# Altium schematic symbol library Signetik-passives.SchLib: 477 symbols (part 2 of 3)
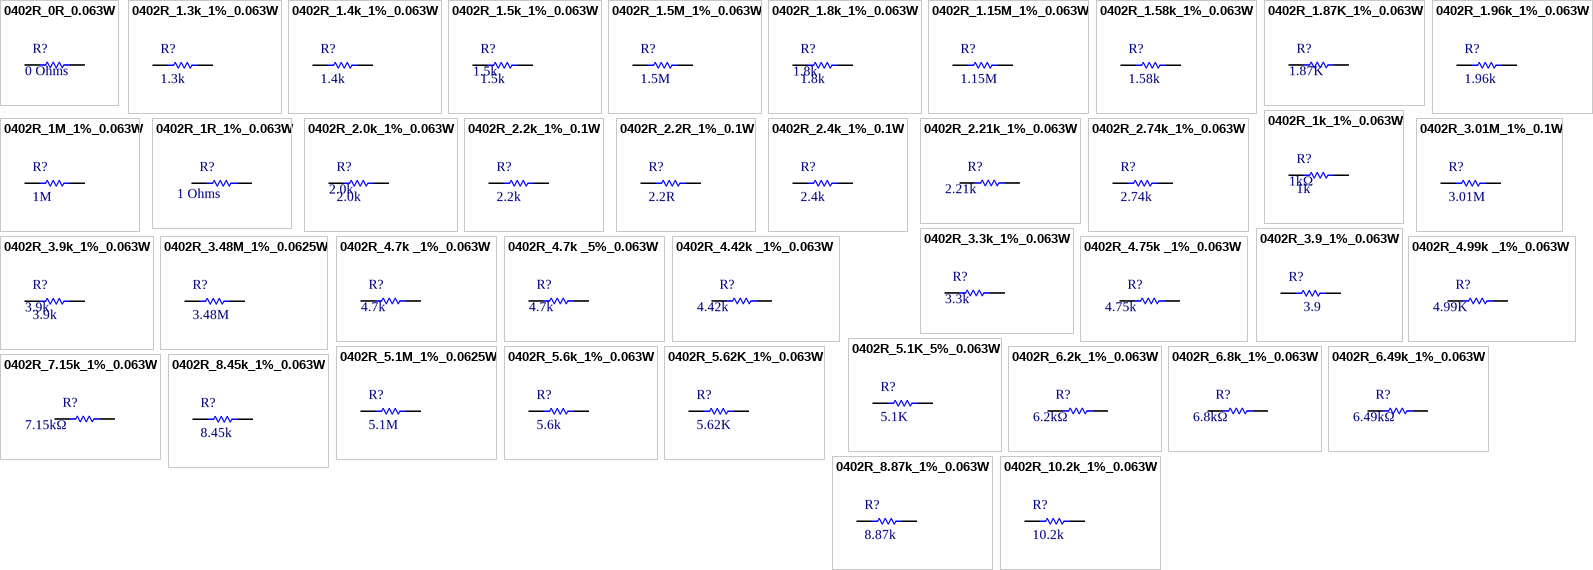
[diagram p12: symbols 0402R_0R_0.063W to 0402R_10.2k_1%_0.063W]

## 0402R_1R_1%_0.063W
designator R?, comment value 1 Ohms  (hidden comment: 1R)
RES 1 OHM 1% 1/16W 0402; MPN: RC0402FR-071RL; Mfg: Yageo; TemperatureRange: -55°C ~ 155°C; Tolerance: ±1%
footprint 0402_RES (0402 (1005) SMD Resistor)
pins: 1, 2

## 0402R_2.0k_1%_0.063W
designator R?, comment 2.0k
RES SMD 2.0K OHM 1% 1/16W 0402; MPN: RC0402FR-072KL; Mfg: Yageo; Unit Cost, Qty 1: $0.10; Unit Cost, Qty 500: $0.00298; Value: 2.0k
footprint 0402_RES (0402 (1005) SMD Resistor)
pins: 1, 2

## 0402R_2.2k_1%_0.1W
designator R?, comment 2.2k
RES SMD 2.2K OHM 1% 1/10W 0402; MPN: ERJ-2RKF2201X; Mfg: Panasonic Electronic Components; Unit Cost, Qty 1: $0.10; Unit Cost, Qty 500: $0.0189; Value: 2.2k
footprint 0402_RES (0402 (1005) SMD Resistor)
pins: 1, 2

## 0402R_2.2R_1%_0.1W
designator R?, comment 2.2R
RES SMD 2.2 OHM 1% 1/16W 0402; MPN: RC0402FR-072R2L; Mfg: Yageo; Unit Cost, Qty 1: $0.10; Unit Cost, Qty 500: $0.0189; Value: 2.2R
footprint 0402_RES (0402 (1005) SMD Resistor)
pins: 1, 2

## 0402R_2.4k_1%_0.1W
designator R?, comment 2.4k
RES SMD 2.4K OHM 1% 1/10W 0402; MPN: RT0402FRE072K4L; Mfg: Yageo; Unit Cost, Qty 1: $0.10; Unit Cost, Qty 500: $0.0189; Value: 2.4k
footprint 0402_RES (0402 (1005) SMD Resistor)
pins: 1, 2

## 0402R_2.21k_1%_0.063W
designator R?, comment 2.21k
RES SMD 2.21K OHM 1% 1/16W 0402; MPN: RC0402FR-072K21L; Mfg: Yageo; Unit Cost, Qty 1: $0.10; Unit Cost, Qty 500: $0.00298; Value: 2.21k
footprint 0402_RES (0402 (1005) SMD Resistor)
pins: 1, 2

## 0402R_2.74k_1%_0.063W
designator R?, comment 2.74k
RES SMD 2.74K OHM 1% 1/16W 0402; MPN: RC0402FR-072K74L; Mfg: Yageo; Unit Cost, Qty 1: $0.10; Unit Cost, Qty 500: $0.00298; Value: 2.74k
footprint 0402_RES (0402 (1005) SMD Resistor)
pins: 1, 2

## 0402R_3.01M_1%_0.1W
designator R?, comment 3.01M
RES SMD 3.01M OHM 1% 1/10W 0402; MPN: RK73H1ETTP3014F; Mfg: KOA Speer; Unit Cost, Qty 1: $0.10; Unit Cost, Qty 500: $0.004; Value: 3.01M
footprint 0402_RES (0402 (1005) SMD Resistor)
pins: 1, 2

## 0402R_3.3k_1%_0.063W
designator R?, comment 3.3k
RES SMD 3.3K OHM 1% 1/16W 0402; MPN: RC0402FR-073K3L; Mfg: Yageo; Unit Cost, Qty 1: $0.10; Unit Cost, Qty 500: $0.00298; Value: 3.3k
footprint 0402_RES (0402 (1005) SMD Resistor)
pins: 1, 2

## 0402R_3.9_1%_0.063W
designator R?, comment 3.9
Resistor 3.9 Ohm ±1% 0.063W SMD 0402; MPN: CRCW04023R90FKED; Mfg: Vishay Dale; Unit Cost, Qty 1: $0.10; Unit Cost, Qty 500: $0.0143; Value: 3.9
footprint 0402_RES (0402 (1005) SMD Resistor)
pins: 1, 2

## 0402R_3.9k_1%_0.063W
designator R?, comment 3.9k
RES SMD 3.9K OHM 1% 1/16W 0402; MPN: RC0402FR-073K9L; Mfg: Yageo; Unit Cost, Qty 1: $0.10; Unit Cost, Qty 500: $0.00298; Value: 3.9k
footprint 0402_RES (0402 (1005) SMD Resistor)
pins: 1, 2

## 0402R_3.48M_1%_0.0625W
designator R?, comment 3.48M
RES SMD 3.48M OHM 1% 1/16W 0402; MPN: RMCF0402FT3M48; Mfg: Stackpole Electronics Inc; Unit Cost, Qty 1: $0.10; Unit Cost, Qty 500: $0.0075; Value: 3.48M
footprint 0402_RES (0402 (1005) SMD Resistor)
pins: 1, 2

## 0402R_4.7k _1%_0.063W
designator R?, comment 4.7k
Resistor 4.7k Ohm ±1% 0.063W 0402; MPN: RC0402FR-074K7L; Mfg: Yageo; Unit Cost, Qty 1: $0.10; Unit Cost, Qty 500: $0.0054; Value: 4.7k
footprint 0402_RES (0402 (1005) SMD Resistor)
pins: 1, 2

## 0402R_4.7k _5%_0.063W
designator R?, comment 4.7k
RES 4.7K OHM 5% 1/16W 0402; MPN: RC0402JR-074K7L; Mfg: Yageo; TemperatureRange: -55°C ~ 155°C; Tolerance: ±5%; Value: 4.7k
footprint 0402_RES (0402 (1005) SMD Resistor)
pins: 1, 2

## 0402R_4.42k _1%_0.063W
designator R?, comment 4.42k
RES SMD 4.42K OHM 1% 1/16W 0402; MPN: RC0402FR-074K42L; Mfg: Yageo; Unit Cost, Qty 1: $0.10; Unit Cost, Qty 500: $0.00296; Value: 4.42k
footprint 0402_RES (0402 (1005) SMD Resistor)
pins: 1, 2

## 0402R_4.75k _1%_0.063W
designator R?, comment 4.75k
Resistor 4.75k Ohm ±1% 0.063W 0402; MPN: RC0402FR-074K75L; Mfg: Yageo; Unit Cost, Qty 1: $0.10; Unit Cost, Qty 500: $0.0054; Value: 4.75k
footprint 0402_RES (0402 (1005) SMD Resistor)
pins: 1, 2

## 0402R_4.99k _1%_0.063W
designator R?, comment 4.99K
RES SMD 4.99K OHM 1% 1/16W 0402; MPN: RC0402FR-074K99L; Mfg: Yageo; Unit Cost, Qty 1: $0.10; Unit Cost, Qty 500: $0.0054; Value: 4.99K
footprint 0402_RES (0402 (1005) SMD Resistor)
pins: 1, 2

## 0402R_5.1K_5%_0.063W
designator R?, comment 5.1K
RES SMD 5.1K OHM 5% 1/16W 0402; MPN: RC0402JR-075K1L; Mfg: Yageo; Unit Cost, Qty 1: $0.10; Unit Cost, Qty 500: $0.0075; Value: 5.1K
footprint 0402_RES (0402 (1005) SMD Resistor)
pins: 1, 2

## 0402R_5.1M_1%_0.0625W
designator R?, comment 5.1M
RES SMD 5.1M OHM 1% 1/16W 0402; MPN: RMCF0402FT5M10; Mfg: Stackpole Electronics Inc; Unit Cost, Qty 1: $0.10; Unit Cost, Qty 500: $0.0075; Value: 5.1M
footprint 0402_RES (0402 (1005) SMD Resistor)
pins: 1, 2

## 0402R_5.6k_1%_0.063W
designator R?, comment 5.6k
RES SMD 5.6K OHM 1% 1/16W 0402; MPN: AC0402FR-075K6L; Mfg: Yageo; TemperatureRange: -55°C ~ 155°C; Tolerance: ±1%; Value: 5.6k
footprint 0402_RES (0402 (1005) SMD Resistor)
pins: 1, 2

## 0402R_5.62K_1%_0.063W
designator R?, comment 5.62K
5.62 kOhms ±1% 0.063W, 1/16W Chip Resistor 0402 (1005 Metric) Anti-Sulfur, Automotive AEC-Q200 Thick Film; MPN: AF0402FR-075K62L; Mfg: Yageo; Unit Cost, Qty 1: $0.10; Unit Cost, Qty 500: $0.0075; Value: 5.62K
footprint 0402_RES (0402 (1005) SMD Resistor)
pins: 1, 2

## 0402R_6.2k_1%_0.063W
designator R?, comment 6.2kΩ
Resistor 6.2k Ohm ±1% 0.063W 0402; MPN: RC0402FR-076K2L; Mfg: Yageo; Unit Cost, Qty 1: $0.10; Unit Cost, Qty 500: $0.0054; Value: 6.2kΩ
footprint 0402_RES (0402 (1005) SMD Resistor)
pins: 1, 2

## 0402R_6.8k_1%_0.063W
designator R?, comment 6.8kΩ
Resistor 6.8k Ohm ±1% 0.063W 0402; MPN: RC0402FR-076K8L; Mfg: Yageo; Unit Cost, Qty 1: $0.10; Unit Cost, Qty 500: $0.0054; Value: 6.8kΩ
footprint 0402_RES (0402 (1005) SMD Resistor)
pins: 1, 2

## 0402R_6.49k_1%_0.063W
designator R?, comment 6.49kΩ
Resistor 6.49k Ohm ±1% 0.063W 0402; MPN: RC0402FR-076K49L; Mfg: Yageo; Unit Cost, Qty 1: $0.10; Unit Cost, Qty 500: $0.0056; Value: 6.49kΩ
footprint 0402_RES (0402 (1005) SMD Resistor)
pins: 1, 2

## 0402R_7.15k_1%_0.063W
designator R?, comment 7.15kΩ
Resistor 7.15k Ohm ±1% 0.063W 0402; MPN: RC0402FR-077K15L; Mfg: Yageo; Unit Cost, Qty 1: $0.10; Unit Cost, Qty 500: $0.0056; Value: 7.15kΩ
footprint 0402_RES (0402 (1005) SMD Resistor)
pins: 1, 2

## 0402R_8.45k_1%_0.063W
designator R?, comment 8.45k
Resistor 8.45k Ohm ±1% 0.063W 0402; MPN: RC0402FR-078K45L; Mfg: Yageo; Unit Cost, Qty 1: $0.10; Unit Cost, Qty 500: $0.0064; Value: 8.45k
footprint 0402_RES (0402 (1005) SMD Resistor)
pins: 1, 2

## 0402R_8.87k_1%_0.063W
designator R?, comment 8.87k
Resistor 8.87k Ohm ±1% 0.063W 0402; MPN: RC0402FR-078K87L; Mfg: Yageo; Unit Cost, Qty 1: $0.10; Unit Cost, Qty 500: $0.0064; Value: 8.87k
footprint 0402_RES (0402 (1005) SMD Resistor)
pins: 1, 2

## 0402R_10.2k_1%_0.063W
designator R?, comment 10.2k
RES SMD 10.2K OHM 1% 1/16W 0402; MPN: RC0402FR-0710K2L; Mfg: Yageo; Unit Cost, Qty 1: $0.10; Unit Cost, Qty 500: $0.0064; Value: 10.2k
footprint 0402_RES (0402 (1005) SMD Resistor)
pins: 1, 2

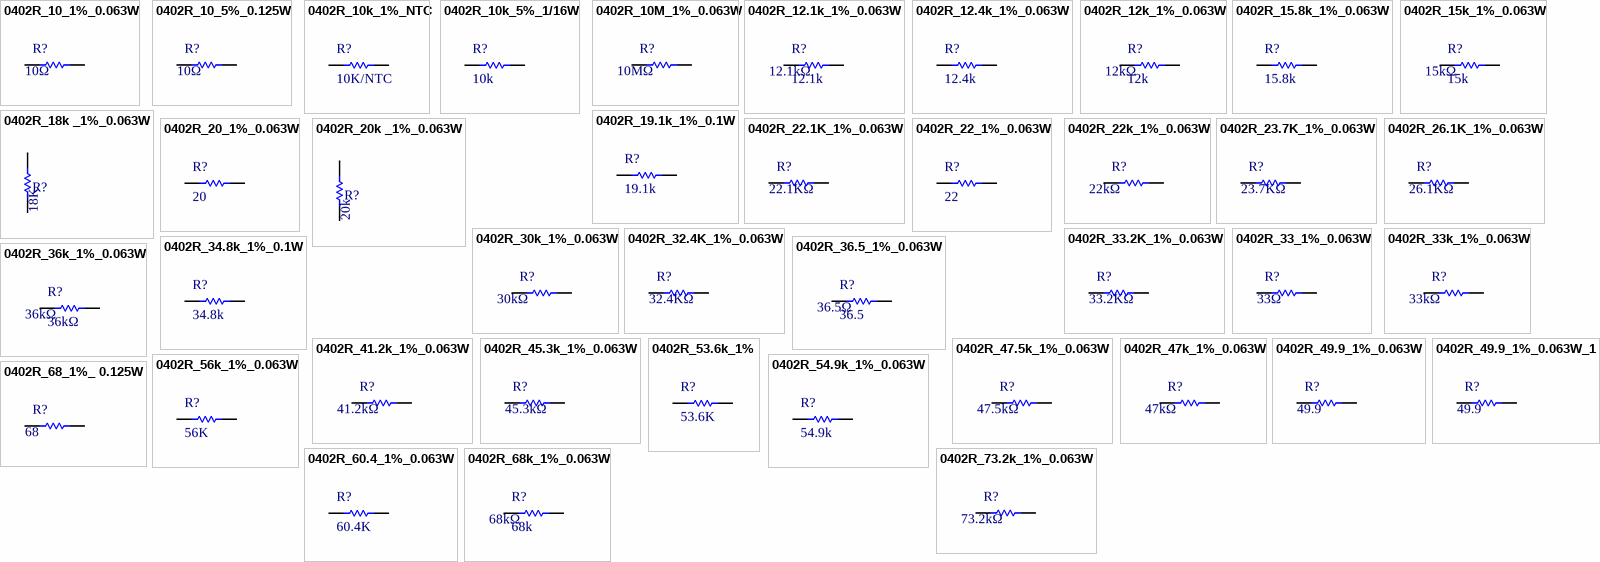
[diagram p5: symbols 0402R_10_1%_0.063W to 0402R_73.2k_1%_0.063W]

## 0402R_10_1%_0.063W
designator R?, comment value 10Ω  (hidden comment: 10)
Resistor 10 Ohm 0.063W 0402; MPN: RC0402FR-0710RL; Mfg: Yageo; Unit Cost, Qty 1: $0.10; Unit Cost, Qty 500: $0.00234
footprint 0402_RES (0402 (1005) SMD Resistor)
pins: 1, 2

## 0402R_10_5%_0.125W
designator R?, comment value 10Ω  (hidden comment: 10)
RES SMD 10 OHM 5% 1/8W 0402; MPN: CRCW040210R0JNEDHP; Mfg: Vishay Dale; Unit Cost, Qty 1: $0.10; Unit Cost, Qty 500: $0.00234
footprint 0402_RES (0402 (1005) SMD Resistor)
pins: 1, 2

## 0402R_10k_1%_NTC
designator R?, comment 10K/NTC
NTC Thermistor 10k 0402 (1005 Metric); MPN: NCU15XH103F6SRC; Mfg: Murata Electronics; Unit Cost, Qty 1: $0.10; Unit Cost, Qty 500: $0.0146; Value: 10K/NTC
footprint 0402_RES (0402 (1005) SMD Resistor)
pins: 1, 2

## 0402R_10k_5%_1/16W
designator R?, comment 10k
RES SMD 10K OHM 5% 1/16W 0402; MPN: RC0402JR-0710KL; Mfg: Yageo; Unit Cost, Qty 1: $0.10; Unit Cost, Qty 500: $0.0146; Value: 10k
footprint 0402_RES (0402 (1005) SMD Resistor)
pins: 1, 2

## 0402R_10M_1%_0.063W
designator R?, comment value 10MΩ  (hidden comment: 10M)
RES SMD 10M OHM 1% 1/16W 0402; MPN: RC0402FR-0710ML; Mfg: Yageo; Unit Cost, Qty 1: $0.10; Unit Cost, Qty 500: $0.00296
footprint 0402_RES (0402 (1005) SMD Resistor)
pins: 1, 2

## 0402R_12.1k_1%_0.063W
designator R?, comment 12.1k  value 12.1kΩ
Resistor 12.1k Ohm ±1% 0.063W 0402; MPN: RC0402FR-0712K1L; Mfg: Yageo; Unit Cost, Qty 1: $0.10; Unit Cost, Qty 500: $0.0054
footprint 0402_RES (0402 (1005) SMD Resistor)
pins: 1, 2

## 0402R_12.4k_1%_0.063W
designator R?, comment 12.4k
Resistor 12.4k Ohm ±1% 0.063W 0402; MPN: RC0402FR-0712K4L; Mfg: Yageo; Unit Cost, Qty 1: $0.10; Unit Cost, Qty 500: $0.0064; Value: 12.4k
footprint 0402_RES (0402 (1005) SMD Resistor)
pins: 1, 2

## 0402R_12k_1%_0.063W
designator R?, comment 12k  value 12kΩ
RES SMD 12K OHM 1% 1/16W 0402; MPN: RC0402FR-0712KL; Mfg: Yageo; Unit Cost, Qty 1: $0.10; Unit Cost, Qty 500: $0.00298
footprint 0402_RES (0402 (1005) SMD Resistor)
pins: 1, 2

## 0402R_15.8k_1%_0.063W
designator R?, comment 15.8k
Resistor 15.8k Ohm ±1% 0.063W 0402; MPN: RC0402FR-0715K8L; Mfg: Yageo; Unit Cost, Qty 1: $0.10; Unit Cost, Qty 500: $0.0056; Value: 15.8k
footprint 0402_RES (0402 (1005) SMD Resistor)
pins: 1, 2

## 0402R_15k_1%_0.063W
designator R?, comment 15k  value 15kΩ
Resistor 15k Ohm ±1% 0.063W 0402; MPN: RC0402FR-0715KL; Mfg: Yageo; Unit Cost, Qty 1: $0.10; Unit Cost, Qty 500: $0.0056
footprint 0402_RES (0402 (1005) SMD Resistor)
pins: 1, 2

## 0402R_18k _1%_0.063W
designator R?, comment 18K
18 kOhms ±1% 0.063W, 1/16W Chip Resistor 0402 (1005 Metric) Moisture Resistant Thick Film; MPN: RC0402FR-0718KL; Mfg: Yageo; Unit Cost, Qty 1: $0.10; Unit Cost, Qty 500: $0.0054; Value: 18K
footprint 0402_RES (0402 (1005) SMD Resistor)
pins: 1, 2

## 0402R_19.1k_1%_0.1W
designator R?, comment 19.1k
Resistor 19.1k Ohm ±1% 0.1W 0402; MPN: ERJ-2RKF1912X; Mfg: Panasonic; Unit Cost, Qty 1: $0.10; Unit Cost, Qty 500: $0.0066; Value: 19.1k
footprint 0402_RES (0402 (1005) SMD Resistor)
pins: 1, 2

## 0402R_20_1%_0.063W
designator R?, comment 20
RES SMD 20 OHM 1% 1/16W 0402; MPN: RT0402FRE0720RL; Mfg: Yageo; Unit Cost, Qty 1: $0.10; Unit Cost, Qty 500: $0.0086; Value: 20
footprint 0402_RES (0402 (1005) SMD Resistor)
pins: 1, 2

## 0402R_20k _1%_0.063W
designator R?, comment 20k
RES SMD 20K OHM 1% 1/16W 0402; MPN: RC0402FR-0720KL; Mfg: Yageo; Unit Cost, Qty 1: $0.10; Unit Cost, Qty 500: $0.0054; Value: 20k
footprint 0402_RES (0402 (1005) SMD Resistor)
pins: 1, 2

## 0402R_22.1K_1%_0.063W
designator R?, comment 22.1KΩ
RES SMD 22.1K OHM 1% 1/16W 0402; MPN: RC0402FR-0722K1L; Mfg: Yageo; Unit Cost, Qty 1: $0.10; Unit Cost, Qty 500: $0.00262; Value: 22.1KΩ
footprint 0402_RES (0402 (1005) SMD Resistor)
pins: 1, 2

## 0402R_22_1%_0.063W
designator R?, comment 22
RES 22 OHM 1% 1/16W 0402; MPN: RC0402FR-0722RL; Mfg: Yageo; TemperatureRange: -55°C ~ 155°C; Tolerance: ±1%; Value: 22
footprint 0402_RES (0402 (1005) SMD Resistor)
pins: 1, 2

## 0402R_22k_1%_0.063W
designator R?, comment 22kΩ
RES SMD 22K OHM 1% 1/16W 0402; MPN: RC0402FR-0722KL; Mfg: Yageo; Unit Cost, Qty 1: $0.10; Unit Cost, Qty 500: $0.00298; Value: 22kΩ
footprint 0402_RES (0402 (1005) SMD Resistor)
pins: 1, 2

## 0402R_23.7K_1%_0.063W
designator R?, comment 23.7KΩ
RES SMD 23.7K OHM 1% 1/16W 0402; MPN: RC0402FR-0723K7L; Mfg: Yageo; Unit Cost, Qty 1: $0.10; Unit Cost, Qty 500: $0.00262; Value: 23.7KΩ
footprint 0402_RES (0402 (1005) SMD Resistor)
pins: 1, 2

## 0402R_26.1K_1%_0.063W
designator R?, comment 26.1KΩ
RES SMD 26.1K OHM 1% 1/16W 0402; MPN: RC0402FR-0726K1L; Mfg: Yageo; Unit Cost, Qty 1: $0.10; Unit Cost, Qty 500: $0.00262; Value: 26.1KΩ
footprint 0402_RES (0402 (1005) SMD Resistor)
pins: 1, 2

## 0402R_30k_1%_0.063W
designator R?, comment 30kΩ
RES SMD 30K OHM 1% 1/16W 0402; MPN: RC0402FR-0730KL; Mfg: Yageo; Unit Cost, Qty 1: $0.10; Unit Cost, Qty 500: $0.00298; Value: 30kΩ
footprint 0402_RES (0402 (1005) SMD Resistor)
pins: 1, 2

## 0402R_32.4K_1%_0.063W
designator R?, comment 32.4KΩ
RES SMD 32.4KOHM 0.1% 1/16W 0402; MPN: RT0402BRD0732K4L; Mfg: Yageo; Unit Cost, Qty 1: $0.10; Unit Cost, Qty 500: $0.00262; Value: 32.4KΩ
footprint 0402_RES (0402 (1005) SMD Resistor)
pins: 1, 2

## 0402R_33.2K_1%_0.063W
designator R?, comment 33.2KΩ
RES SMD 33 OHM 5% 1/16W 0402; MPN: CRCW040233K2FKEDC; Mfg: Vishay Dale; Unit Cost, Qty 1: $0.10; Unit Cost, Qty 500: $0.00262; Value: 33.2KΩ
footprint 0402_RES (0402 (1005) SMD Resistor)
pins: 1, 2

## 0402R_33_1%_0.063W
designator R?, comment 33Ω
RES SMD 33 OHM 5% 1/16W 0402; MPN: RC0402JR-0733RL; Mfg: Yageo; Unit Cost, Qty 1: $0.10; Unit Cost, Qty 500: $0.00262; Value: 33Ω
footprint 0402_RES (0402 (1005) SMD Resistor)
pins: 1, 2

## 0402R_33k_1%_0.063W
designator R?, comment 33kΩ
RES SMD 33K OHM 1% 1/16W 0402; MPN: RC0402FR-0733KL; Mfg: Yageo; Unit Cost, Qty 1: $0.10; Unit Cost, Qty 500: $0.00298; Value: 33kΩ
footprint 0402_RES (0402 (1005) SMD Resistor)
pins: 1, 2

## 0402R_34.8k_1%_0.1W
designator R?, comment 34.8k
RES SMD 34.8K OHM 1% 1/10W 0402; MPN: ERJ-2RKF3482X; Mfg: Panasonic; Unit Cost, Qty 1: $0.10; Unit Cost, Qty 500: $0.017; Value: 34.8k
footprint 0402_RES (0402 (1005) SMD Resistor)
pins: 1, 2

## 0402R_36.5_1%_0.063W
designator R?, comment 36.5  value 36.5Ω
Resistor 36.5 Ohm ±1% 0.063W 0402; MPN: RC0402FR-0736R5L; Mfg: Yageo; Unit Cost, Qty 1: $0.10; Unit Cost, Qty 500: $0.0054
footprint 0402_RES (0402 (1005) SMD Resistor)
pins: 1, 2

## 0402R_36k_1%_0.063W
designator R?, comment 36kΩ
RES SMD 36K OHM 1% 1/16W 0402; MPN: RC0402FR-0736KL; Mfg: Yageo; Unit Cost, Qty 1: $0.10; Unit Cost, Qty 500: $0.00298; Value: 36kΩ
footprint 0402_RES (0402 (1005) SMD Resistor)
pins: 1, 2

## 0402R_41.2k_1%_0.063W
designator R?, comment 41.2kΩ
RES SMD 41.2K OHM 1% 1/16W 0402; MPN: RC0402FR-0741K2L; Mfg: Yageo; Unit Cost, Qty 1: $0.10; Unit Cost, Qty 500: $0.00298; Value: 41.2kΩ
footprint 0402_RES (0402 (1005) SMD Resistor)
pins: 1, 2

## 0402R_45.3k_1%_0.063W
designator R?, comment 45.3kΩ
RES SMD 45.3K OHM 1% 1/16W 0402; MPN: RC0402FR-0745K3L; Mfg: Yageo; Unit Cost, Qty 1: $0.10; Unit Cost, Qty 500: $0.00298; Value: 45.3kΩ
footprint 0402_RES (0402 (1005) SMD Resistor)
pins: 1, 2

## 0402R_47.5k_1%_0.063W
designator R?, comment 47.5kΩ
RES 47.5K OHM 1% 1/16W 0402; MPN: RC0402FR-0747K5L; Mfg: Yageo; Unit Cost, Qty 1: $0.10; Unit Cost, Qty 500: $0.00298; Value: 47.5kΩ
footprint 0402_RES (0402 (1005) SMD Resistor)
pins: 1, 2

## 0402R_47k_1%_0.063W
designator R?, comment 47kΩ
RES SMD 47K OHM 1% 1/16W 0402; MPN: RC0402FR-0747KL; Mfg: Yageo; Unit Cost, Qty 1: $0.10; Unit Cost, Qty 500: $0.00298; Value: 47kΩ
footprint 0402_RES (0402 (1005) SMD Resistor)
pins: 1, 2

## 0402R_49.9_1%_0.063W
designator R?, comment 49.9
Resistor 49.9% 0.063W 0402; MPN: RC0402FR-0749R9L; Mfg: Yageo; Unit Cost, Qty 1: $0.10; Unit Cost, Qty 500: $0.0054; Value: 49.9
footprint 0402_RES (0402 (1005) SMD Resistor)
pins: 1, 2

## 0402R_49.9_1%_0.063W_1
designator R?, comment 49.9
Resistor 49.9% 0.063W 0402; MPN: RC0402FR-0749R9L; Mfg: Yageo; Tolerance: ±1%; TemperatureRange: -55°C ~ 155°C; Value: 49.9
footprint 0402_RES (0402 (1005) SMD Resistor)
pins: 1, 2

## 0402R_53.6k_1%
designator R?, comment 53.6K
RES SMD 53.6K OHM 1% 1/16W 0402; MPN: RC0402FR-0753K6L; Mfg: Yageo; Unit Cost, Qty 1: $0.10; Unit Cost, Qty 500: $0.006; Value: 53.6K
footprint 0402_RES (0402 (1005) SMD Resistor)
pins: 1, 2

## 0402R_54.9k_1%_0.063W
designator R?, comment 54.9k
Resistor 54.9k 1% 0.063W 0402; MPN: RC0402FR-0754K9L; Mfg: Yageo; Unit Cost, Qty 1: $0.10; Unit Cost, Qty 500: $0.006; Value: 54.9k
footprint 0402_RES (0402 (1005) SMD Resistor)
pins: 1, 2

## 0402R_56k_1%_0.063W
designator R?, comment 56K
RES SMD 56K OHM 1% 1/16W 0402; MPN: RT0402FRE0756KL; Mfg: Yageo; Unit Cost, Qty 1: $0.10; Unit Cost, Qty 500: $0.006; Value: 56K
footprint 0402_RES (0402 (1005) SMD Resistor)
pins: 1, 2

## 0402R_60.4_1%_0.063W
designator R?, comment 60.4K
RES 60.4K OHM 1% 1/16W 0402; MPN: RC0402FR-0760K4L; Mfg: Yageo; TemperatureRange: -55°C ~ 155°C; Tolerance: ±1%; Value: 60.4K
footprint 0402_RES (0402 (1005) SMD Resistor)
pins: 1, 2

## 0402R_68_1%_ 0.125W
designator R?, comment 68
CRGP 0402 68R 1%; MPN: CRGP0402F68R; Mfg: TE Connectivity Passive Product; Unit Cost, Qty 1: $0.10; Unit Cost, Qty 500: $0.0054; Value: 68
footprint 0402_RES (0402 (1005) SMD Resistor)
pins: 1, 2

## 0402R_68k_1%_0.063W
designator R?, comment 68k  value 68kΩ
RES SMD 68K OHM 1% 1/16W 0402; MPN: RC0402FR-0768KL; Mfg: Yageo; Unit Cost, Qty 1: $0.10; Unit Cost, Qty 500: $0.00298
footprint 0402_RES (0402 (1005) SMD Resistor)
pins: 1, 2

## 0402R_73.2k_1%_0.063W
designator R?, comment 73.2kΩ
Resistor 73.2k Ohm ±1% 0.063W 0402; MPN: RC0402FR-0773K2L; Mfg: Yageo; Unit Cost, Qty 1: $0.10; Unit Cost, Qty 500: $0.0054; Value: 73.2kΩ
footprint 0402_RES (0402 (1005) SMD Resistor)
pins: 1, 2

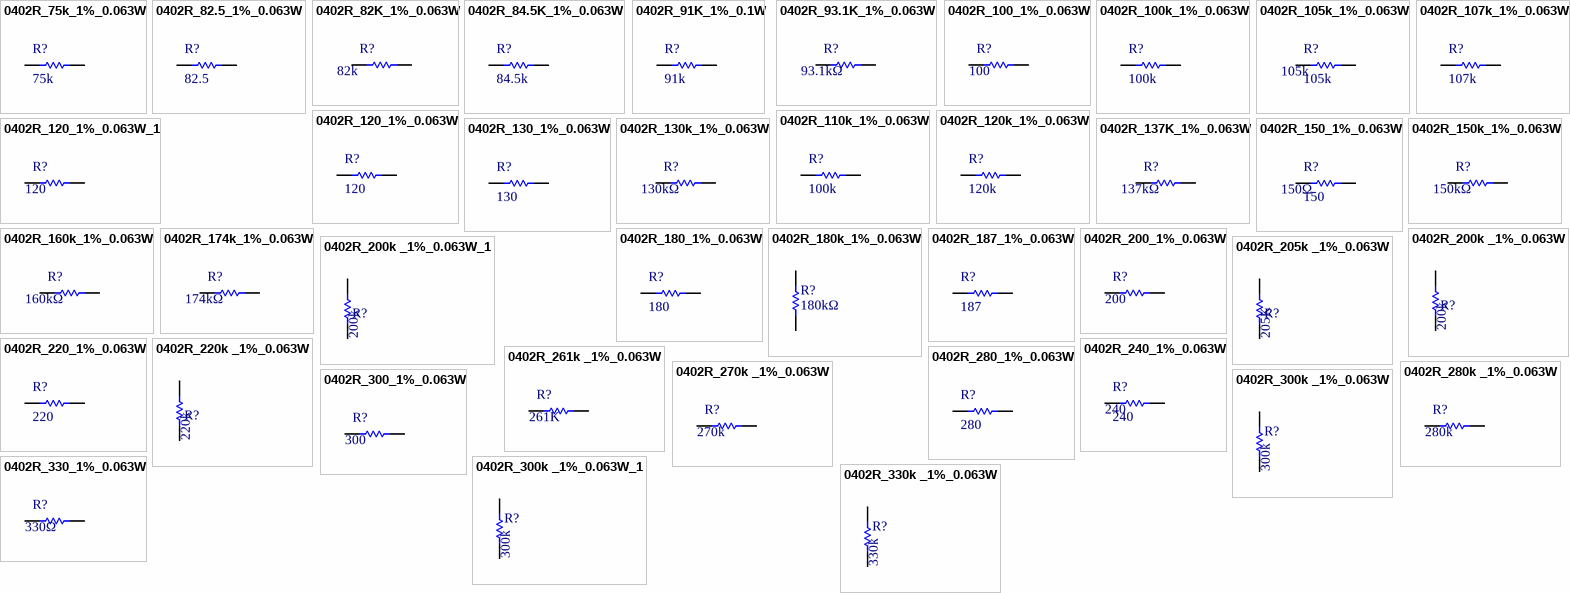
[diagram p6: symbols 0402R_75k_1%_0.063W to 0402R_330k _1%_0.063W]

## 0402R_75k_1%_0.063W
designator R?, comment 75k
Resistor 75k Ohm ±1% 0.063W 0402; MPN: ERJ-2RKF7502X; Mfg: Panasonic; Unit Cost, Qty 1: $0.10; Unit Cost, Qty 500: $0.016; Value: 75k
footprint 0402_RES (0402 (1005) SMD Resistor)
pins: 1, 2

## 0402R_82.5_1%_0.063W
designator R?, comment 82.5
RES SMD 82.5 OHM 1% 1/10W 0402; MPN: ERJ-2RKF82R5X; Mfg: Panasonic Electronic Components; Unit Cost, Qty 1: $0.10; Unit Cost, Qty 500: $0.0086; Value: 82.5
footprint 0402_RES (0402 (1005) SMD Resistor)
pins: 1, 2

## 0402R_82K_1%_0.063W
designator R?, comment 82k
RES SMD 82K OHM 1% 1/16W 0402; MPN: RC0402FR-0782KL; Mfg: Yageo; Unit Cost, Qty 1: $0.10; Unit Cost, Qty 500: $0.0067; Value: 82k
footprint 0402_RES (0402 (1005) SMD Resistor)
pins: 1, 2

## 0402R_84.5K_1%_0.063W
designator R?, comment 84.5k
RES SMD 84.5K OHM 1% 1/16W 0402; MPN: RC0402FR-0784K5L; Mfg: Yageo; Unit Cost, Qty 1: $0.10; Unit Cost, Qty 500: $0.0067; Value: 84.5k
footprint 0402_RES (0402 (1005) SMD Resistor)
pins: 1, 2

## 0402R_91K_1%_0.1W
designator R?, comment 91k
RES SMD 91K OHM 1% 1/10W 0402; MPN: ERJ-2RKF9102X; Mfg: Panasonic; Unit Cost, Qty 1: $0.10; Unit Cost, Qty 500: $0.0148; Value: 91k
footprint 0402_RES (0402 (1005) SMD Resistor)
pins: 1, 2

## 0402R_93.1K_1%_0.063W
designator R?, comment 93.1kΩ
RES SMD 93.1K OHM 1% 1/16W 0402; MPN: RC0402FR-0793K1L; Mfg: Yageo; Unit Cost, Qty 1: $0.10; Unit Cost, Qty 500: $0.00296; Value: 93.1kΩ
footprint 0402_RES (0402 (1005) SMD Resistor)
pins: 1, 2

## 0402R_100_1%_0.063W
designator R?, comment value 100  (hidden comment: 100Ω)
RES SMD 100 OHM 1% 1/16W 0402; MPN: RC0402FR-07100RL; Mfg: Yageo; Unit Cost, Qty 1: $0.10; Unit Cost, Qty 500: $0.00234
footprint 0402_RES (0402 (1005) SMD Resistor)
pins: 1, 2

## 0402R_100k_1%_0.063W
designator R?, comment 100k
Resistor 100K OHM 1% 0.063W 0402; MPN: RC0402FR-07100KL; Mfg: Yageo; Unit Cost, Qty 1: $0.10; Unit Cost, Qty 500: $0.00298; Value: 100k
footprint 0402_RES (0402 (1005) SMD Resistor)
pins: 1, 2

## 0402R_105k_1%_0.063W
designator R?, comment 105k
Resistor 105K OHM 1% 0.063W 0402; MPN: RC0402FR-07105KL; Mfg: Yageo; Unit Cost, Qty 1: $0.10; Unit Cost, Qty 500: $0.00298; Value: 105k
footprint 0402_RES (0402 (1005) SMD Resistor)
pins: 1, 2

## 0402R_107k_1%_0.063W
designator R?, comment 107k
Resistor 107K OHM 1% 0.063W 0402; MPN: RC0402FR-07107KL; Mfg: Yageo; Unit Cost, Qty 1: $0.10; Unit Cost, Qty 500: $0.00298; Value: 107k
footprint 0402_RES (0402 (1005) SMD Resistor)
pins: 1, 2

## 0402R_110k_1%_0.063W
designator R?, comment 100k
Resistor 110K OHM 1% 0.063W 0402; MPN: AC0402FR-07110KL; Mfg: Yageo; Unit Cost, Qty 1: $0.10; Unit Cost, Qty 500: $0.0087; Value: 100k
footprint 0402_RES (0402 (1005) SMD Resistor)
pins: 1, 2

## 0402R_120_1%_0.063W
designator R?, comment 120
Resistor 0402 120 1% 0.063W; MPN: CRGCQ0402F120R; Mfg: TE Connectivity Passive Product; Unit Cost, Qty 1: $0.10; Unit Cost, Qty 500: $0.0086; Value: 120
footprint 0402_RES (0402 (1005) SMD Resistor)
pins: 1, 2

## 0402R_120_1%_0.063W_1
designator R?, comment 120
RES 120 OHM 1% 1/16W 0402; MPN: RC0402FR-07120RL; Mfg: Yageo; TemperatureRange: -55°C ~ 155°C; Tolerance: ±1%; Value: 120
footprint 0402_RES (0402 (1005) SMD Resistor)
pins: 1, 2

## 0402R_120k_1%_0.063W
designator R?, comment 120k
RES SMD 120K OHM 1% 1/16W 0402; MPN: CRGCQ0402F120K; Mfg: TE Connectivity; Unit Cost, Qty 1: $0.10; Unit Cost, Qty 500: $0.0086; Value: 120k
footprint 0402_RES (0402 (1005) SMD Resistor)
pins: 1, 2

## 0402R_130_1%_0.063W
designator R?, comment 130
RES SMD 130 OHM 1% 1/16W 0402; MPN: RC0402FR-07130RL; Mfg: Yageo; Unit Cost, Qty 1: $0.10; Unit Cost, Qty 500: $0.0086; Value: 130
footprint 0402_RES (0402 (1005) SMD Resistor)
pins: 1, 2

## 0402R_130k_1%_0.063W
designator R?, comment 130kΩ
RES SMD 130K OHM 1% 1/16W 0402; MPN: RC0402FR-07130KL; Mfg: Yageo; Unit Cost, Qty 1: $0.10; Unit Cost, Qty 500: $0.00298; Value: 130kΩ
footprint 0402_RES (0402 (1005) SMD Resistor)
pins: 1, 2

## 0402R_137K_1%_0.063W
designator R?, comment 137kΩ
RES SMD 137K OHM 1% 1/16W 0402; MPN: RC0402FR-07137KL; Mfg: Yageo; Unit Cost, Qty 1: $0.10; Unit Cost, Qty 500: $0.00296; Value: 137kΩ
footprint 0402_RES (0402 (1005) SMD Resistor)
pins: 1, 2

## 0402R_150_1%_0.063W
designator R?, comment 150  value 150Ω
Resistor 150 Ohm ±1% 0.063W 0402; MPN: RC0402JR-07150RL; Mfg: Yageo; Unit Cost, Qty 1: $0.10; Unit Cost, Qty 500: $0.00213
footprint 0402_RES (0402 (1005) SMD Resistor)
pins: 1, 2

## 0402R_150k_1%_0.063W
designator R?, comment 150kΩ
RES SMD 150K OHM 1% 1/16W 0402; MPN: RC0402FR-07150KL; Mfg: Yageo; Unit Cost, Qty 1: $0.10; Unit Cost, Qty 500: $0.00298; Value: 150kΩ
footprint 0402_RES (0402 (1005) SMD Resistor)
pins: 1, 2

## 0402R_160k_1%_0.063W
designator R?, comment 160kΩ
RES SMD 160K OHM 1% 1/10W 0402; MPN: ERJ-2RKF1603X; Mfg: Panasonic Electronic Components; TemperatureRange: -55°C ~ 155°C; Tolerance: ±1%; Value: 160kΩ
footprint 0402_RES (0402 (1005) SMD Resistor)
pins: 1, 2

## 0402R_174k_1%_0.063W
designator R?, comment 174kΩ
RES SMD 174K OHM 1% 1/16W 0402; MPN: RC0402FR-07174KL; Mfg: Yageo; Unit Cost, Qty 1: $0.10; Unit Cost, Qty 500: $0.00298; Value: 174kΩ
footprint 0402_RES (0402 (1005) SMD Resistor)
pins: 1, 2

## 0402R_180_1%_0.063W
designator R?, comment 180
RES 180 OHM 1% 1/16W 0402; MPN: RC0402FR-07180RL; Mfg: Yageo; TemperatureRange: -55°C ~ 155°C; Tolerance: ±1%; Value: 180
footprint 0402_RES (0402 (1005) SMD Resistor)
pins: 1, 2

## 0402R_180k_1%_0.063W
designator R?, comment 180kΩ
RES SMD 180K OHM 1% 1/16W 0402; MPN: RC0402FR-07180KL; Mfg: Yageo; Unit Cost, Qty 1: $0.10; Unit Cost, Qty 500: $0.00298; Value: 180kΩ
footprint 0402_RES (0402 (1005) SMD Resistor)
pins: 1, 2

## 0402R_187_1%_0.063W
designator R?, comment 187
Resistor 187 1% 0.063W 0402; MPN: ERJ-2RKF1870X; Mfg: Panasonic; Unit Cost, Qty 1: $0.10; Unit Cost, Qty 500: $0.0167; Value: 187
footprint 0402_RES (0402 (1005) SMD Resistor)
pins: 1, 2

## 0402R_200_1%_0.063W
designator R?, comment 200
RES SMD 200 OHM 1% 1/16W 0402; MPN: RC0402FR-07200RL; Mfg: Yageo; Unit Cost, Qty 1: $0.10; Unit Cost, Qty 500: $0.00298; Value: 200
footprint 0402_RES (0402 (1005) SMD Resistor)
pins: 1, 2

## 0402R_200k _1%_0.063W
designator R?, comment 200k
Resistor 200k Ohm ±1% 0.063W 0402; MPN: RC0402FR-07200KL; Mfg: Yageo; Unit Cost, Qty 1: $0.10; Unit Cost, Qty 500: $0.0054; Value: 200k
footprint 0402_RES (0402 (1005) SMD Resistor)
pins: 1, 2

## 0402R_200k _1%_0.063W_1
designator R?, comment 200k
RES 200K OHM 1% 1/16W 0402; MPN: RC0402FR-07200KL; Mfg: Yageo; TemperatureRange: -55°C ~ 155°C; Tolerance: ±1%; Value: 200k
footprint 0402_RES (0402 (1005) SMD Resistor)
pins: 1, 2

## 0402R_205k _1%_0.063W
designator R?, comment 205K
RES SMD 205K OHM 1% 1/16W 0402; MPN: RC0402FR-07205KL; Mfg: Yageo; Unit Cost, Qty 1: $0.10; Unit Cost, Qty 500: $0.0054; Value: 205K
footprint 0402_RES (0402 (1005) SMD Resistor)
pins: 1, 2

## 0402R_220_1%_0.063W
designator R?, comment 220
CRGCQ 0402 220R 1% 0.063W; MPN: CRGCQ0402F220R; Mfg: TE Connectivity Passive Product; Unit Cost, Qty 1: $0.10; Unit Cost, Qty 500: $0.00298; Value: 220
footprint 0402_RES (0402 (1005) SMD Resistor)
pins: 1, 2

## 0402R_220k _1%_0.063W
designator R?, comment 220k
RES SMD 220K OHM 1% 1/16W 0402; MPN: RT0402FRE07220KL; Mfg: Yageo; Unit Cost, Qty 1: $0.10; Unit Cost, Qty 500: $0.0054; Value: 220k
footprint 0402_RES (0402 (1005) SMD Resistor)
pins: 1, 2

## 0402R_240_1%_0.063W
designator R?, comment 240
Resistor 240 Ohm ±1% 0.063W 0402; MPN: RC0402FR-07240RL; Mfg: Yageo; Unit Cost, Qty 1: $0.10; Unit Cost, Qty 500: $0.00298; Value: 240
footprint 0402_RES (0402 (1005) SMD Resistor)
pins: 1, 2

## 0402R_261k _1%_0.063W
designator R?, comment 261K
261 kOhms ±1% 0.063W, 1/16W Chip Resistor 0402 (1005 Metric) Moisture Resistant Thick Film; MPN: RC0402FR-07261KL; Mfg: Yageo; Unit Cost, Qty 1: $0.10; Unit Cost, Qty 500: $0.0054; Value: 261K
footprint 0402_RES (0402 (1005) SMD Resistor)
pins: 1, 2

## 0402R_270k _1%_0.063W
designator R?, comment 270k
270 kOhms ±1% 0.063W, 1/16W Chip Resistor 0402 (1005 Metric) Moisture Resistant Thick Film; MPN: RC0402FR-07270KL; Mfg: Yageo; Unit Cost, Qty 1: $0.10; Unit Cost, Qty 500: $0.0054; Value: 270k
footprint 0402_RES (0402 (1005) SMD Resistor)
pins: 1, 2

## 0402R_280_1%_0.063W
designator R?, comment 280
Resistor 280 Ohm ±1% 0.063W 0402; MPN: RC0402FR-07280RL; Mfg: Yageo; Unit Cost, Qty 1: $0.10; Unit Cost, Qty 500: $0.00298; Value: 280
footprint 0402_RES (0402 (1005) SMD Resistor)
pins: 1, 2

## 0402R_280k _1%_0.063W
designator R?, comment 280k
Resistor 280k Ohm ±1% 0.063W 0402; MPN: RC0402FR-07280KL; Mfg: Yageo; Unit Cost, Qty 1: $0.10; Unit Cost, Qty 500: $0.0054; Value: 280k
footprint 0402_RES (0402 (1005) SMD Resistor)
pins: 1, 2

## 0402R_300_1%_0.063W
designator R?, comment 300
Resistor 300 Ohm ±1% 0.063W SMD 0402; MPN: RC0402FR-07300RL; Mfg: Yageo; Unit Cost, Qty 1: $0.10; Unit Cost, Qty 500: $0.0054; Value: 300
footprint 0402_RES (0402 (1005) SMD Resistor)
pins: 1, 2

## 0402R_300k _1%_0.063W
designator R?, comment 300k
Resistor 300k Ohm ±1% 0.063W 0402; MPN: RC0402FR-07300KL; Mfg: Yageo; Unit Cost, Qty 1: $0.10; Unit Cost, Qty 500: $0.0054; Value: 300k
footprint 0402_RES (0402 (1005) SMD Resistor)
pins: 1, 2

## 0402R_300k _1%_0.063W_1
designator R?, comment 300k
RES 300K OHM 1% 1/16W 0402; MPN: RC0402FR-07300KL; Mfg: Yageo; TemperatureRange: -55°C ~ 155°C; Tolerance: ±1%; Value: 300k
footprint 0402_RES (0402 (1005) SMD Resistor)
pins: 1, 2

## 0402R_330_1%_0.063W
designator R?, comment value 330Ω  (hidden comment: 330)
RES SMD 330 OHM 1% 1/16W 0402; MPN: RC0402FR-07330RL; Mfg: Yageo; Unit Cost, Qty 1: $0.10; Unit Cost, Qty 500: $0.00298
footprint 0402_RES (0402 (1005) SMD Resistor)
pins: 1, 2

## 0402R_330k _1%_0.063W
designator R?, comment 330k
Resistor 330k Ohm ±1% 0.063W 0402; MPN: RC0402FR-07330KL; Mfg: Yageo; Unit Cost, Qty 1: $0.10; Unit Cost, Qty 500: $0.0054; Value: 330k
footprint 0402_RES (0402 (1005) SMD Resistor)
pins: 1, 2

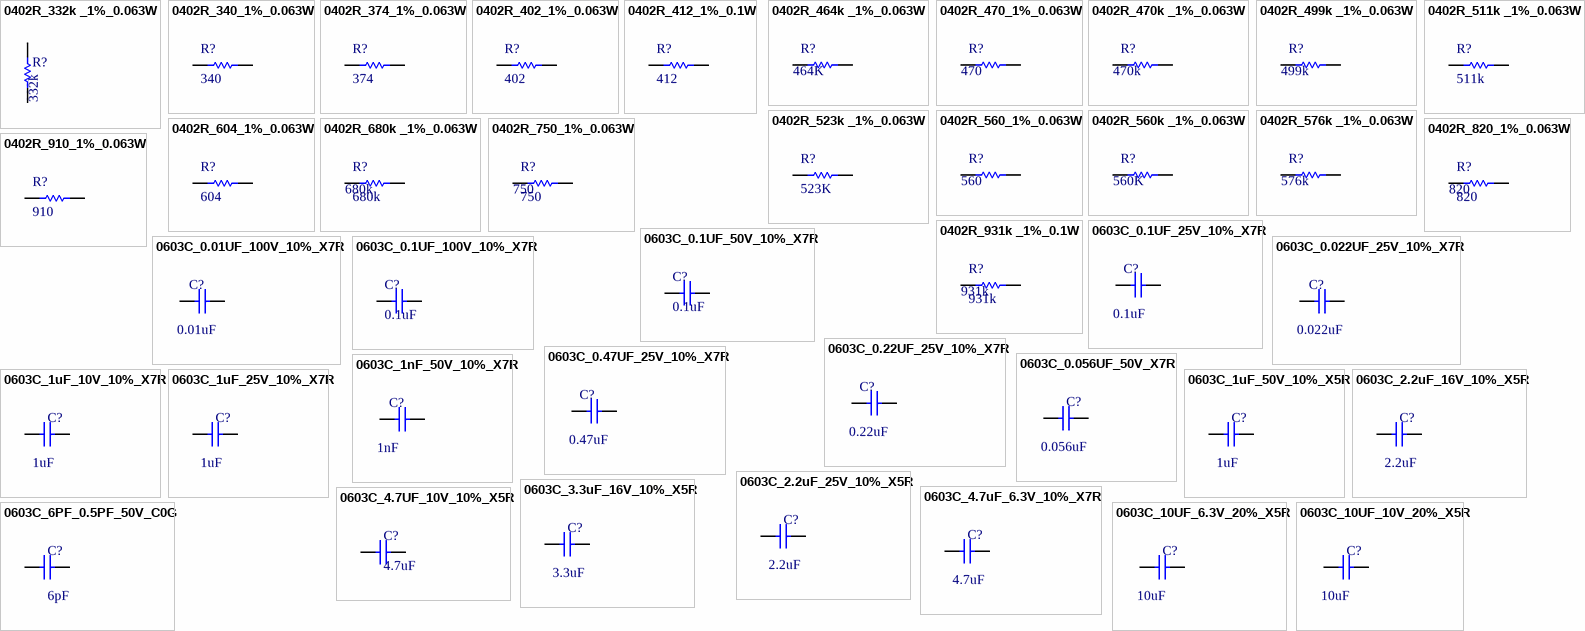
[diagram p7: symbols 0402R_332k _1%_0.063W to 0603C_10UF_10V_20%_X5R]

## 0402R_332k _1%_0.063W
designator R?, comment value 332k  (hidden comment: 330k)
RES SMD 332K OHM 1% 1/16W 0402; MPN: AC0402FR-07332KL; Mfg: Yageo; Unit Cost, Qty 1: $0.10; Unit Cost, Qty 500: $0.0054
footprint 0402_RES (0402 (1005) SMD Resistor)
pins: 1, 2

## 0402R_340_1%_0.063W
designator R?, comment 340
RES SMD 340 OHM 1% 1/16W 0402; MPN: RC0402FR-07340RL; Mfg: Yageo; Unit Cost, Qty 1: $0.10; Unit Cost, Qty 500: $0.00298; Value: 340
footprint 0402_RES (0402 (1005) SMD Resistor)
pins: 1, 2

## 0402R_374_1%_0.063W
designator R?, comment 374
RES SMD 374 OHM 1% 1/16W 0402; MPN: RC0402FR-07374RL; Mfg: Yageo; Unit Cost, Qty 1: $0.10; Unit Cost, Qty 500: $0.0064; Value: 374
footprint 0402_RES (0402 (1005) SMD Resistor)
pins: 1, 2

## 0402R_402_1%_0.063W
designator R?, comment 402
RES SMD 402 OHM 1% 1/16W 0402; MPN: RC0402FR-07402RL; Mfg: Yageo; Unit Cost, Qty 1: $0.10; Unit Cost, Qty 500: $0.0064; Value: 402
footprint 0402_RES (0402 (1005) SMD Resistor)
pins: 1, 2

## 0402R_412_1%_0.1W
designator R?, comment 412
RES SMD 412 OHM 1% 1/10W 0402; MPN: ERJ-2RKF4120X; Mfg: Panasonic; Unit Cost, Qty 1: $0.10; Unit Cost, Qty 500: $0.009; Value: 412
footprint 0402_RES (0402 (1005) SMD Resistor)
pins: 1, 2

## 0402R_464k _1%_0.063W
designator R?, comment 464K
464 kOhms ±1% 0.063W, 1/16W Chip Resistor 0402 (1005 Metric) Moisture Resistant Thick Film; MPN: RC0402FR-07464KL; Mfg: Yageo; Unit Cost, Qty 1: $0.10; Unit Cost, Qty 500: $0.0054; Value: 464K
footprint 0402_RES (0402 (1005) SMD Resistor)
pins: 1, 2

## 0402R_470_1%_0.063W
designator R?, comment 470
RES SMD 470 OHM 1% 1/16W 0402; MPN: RC0402FR-07470RL; Mfg: Yageo; Unit Cost, Qty 1: $0.10; Unit Cost, Qty 500: $0.00298; Value: 470
footprint 0402_RES (0402 (1005) SMD Resistor)
pins: 1, 2

## 0402R_470k _1%_0.063W
designator R?, comment 470k
Resistor 470k Ohm ±1% 0.063W 0402; MPN: RC0402FR-07470KL; Mfg: Yageo; Unit Cost, Qty 1: $0.10; Unit Cost, Qty 500: $0.0054; Value: 470k
footprint 0402_RES (0402 (1005) SMD Resistor)
pins: 1, 2

## 0402R_499k _1%_0.063W
designator R?, comment 499k
RES 499K OHM 1% 1/16W 0402; MPN: RC0402FR-07499KL; Mfg: Yageo; TemperatureRange: -55°C ~ 155°C; Tolerance: ±1%; Value: 499k
footprint 0402_RES (0402 (1005) SMD Resistor)
pins: 1, 2

## 0402R_511k _1%_0.063W
designator R?, comment 511k
Resistor 511k Ohm ±1% 0.063W 0402; MPN: RMCF0402FT511K; Mfg: Stackpole; Unit Cost, Qty 1: $0.10; Unit Cost, Qty 500: $0.0058; Value: 511k
footprint 0402_RES (0402 (1005) SMD Resistor)
pins: 1, 2

## 0402R_523k _1%_0.063W
designator R?, comment 523K
RES 523K OHM 1% 1/16W 0402; MPN: RC0402FR-07523KP; Mfg: Yageo; Unit Cost, Qty 1: $0.10; Unit Cost, Qty 500: $0.0058; Value: 523K
footprint 0402_RES (0402 (1005) SMD Resistor)
pins: 1, 2

## 0402R_560_1%_0.063W
designator R?, comment 560
RES SMD 560 OHM 1% 1/16W 0402; MPN: RC0402FR-07560RL; Mfg: Yageo; Unit Cost, Qty 1: $0.10; Unit Cost, Qty 500: $0.00298; Value: 560
footprint 0402_RES (0402 (1005) SMD Resistor)
pins: 1, 2

## 0402R_560k _1%_0.063W
designator R?, comment 560K
560 kOhms ±5% 0.063W, 1/16W Chip Resistor 0402 (1005 Metric) Moisture Resistant Thick Film; MPN: RC0402JR-07560KL; Mfg: Yageo; Unit Cost, Qty 1: $0.10; Unit Cost, Qty 500: $0.0054; Value: 560K
footprint 0402_RES (0402 (1005) SMD Resistor)
pins: 1, 2

## 0402R_576k _1%_0.063W
designator R?, comment 576k
RES SMD 576K OHM 1% 1/10W 0402; MPN: ERJ-2RKF5763X; Mfg: Panasonic Electronic Components; TemperatureRange: -55°C ~ 155°C; Tolerance: ±1%; Value: 576k
footprint 0402_RES (0402 (1005) SMD Resistor)
pins: 1, 2

## 0402R_604_1%_0.063W
designator R?, comment 604
RES SMD 604 OHM 1% 1/16W 0402; MPN: RC0402FR-07604RL; Mfg: Yageo; Unit Cost, Qty 1: $0.10; Unit Cost, Qty 500: $0.0064; Value: 604
footprint 0402_RES (0402 (1005) SMD Resistor)
pins: 1, 2

## 0402R_680k _1%_0.063W
designator R?, comment 680k
Resistor 680k Ohm ±1% 0.063W 0402; MPN: RC0402FR-07680KL; Mfg: Yageo; Unit Cost, Qty 1: $0.10; Unit Cost, Qty 500: $0.0054; Value: 680k
footprint 0402_RES (0402 (1005) SMD Resistor)
pins: 1, 2

## 0402R_750_1%_0.063W
designator R?, comment 750
RES SMD 750 OHM 1% 1/16W 0402; MPN: RC0402FR-07750RL; Mfg: Yageo; Unit Cost, Qty 1: $0.10; Unit Cost, Qty 500: $0.00298; Value: 750
footprint 0402_RES (0402 (1005) SMD Resistor)
pins: 1, 2

## 0402R_820_1%_0.063W
designator R?, comment 820
RES SMD 820 OHM 1% 1/16W 0402; MPN: RC0402FR-07820RL; Mfg: Yageo; Unit Cost, Qty 1: $0.10; Unit Cost, Qty 500: $0.00298; Value: 820
footprint 0402_RES (0402 (1005) SMD Resistor)
pins: 1, 2

## 0402R_910_1%_0.063W
designator R?, comment 910
RES SMD 910 OHM 1% 1/16W 0402; MPN: RC0402FR-07910RL; Mfg: Yageo; Unit Cost, Qty 1: $0.10; Unit Cost, Qty 500: $0.00298; Value: 910
footprint 0402_RES (0402 (1005) SMD Resistor)
pins: 1, 2

## 0402R_931k _1%_0.1W
designator R?, comment 931k
Resistor 931k Ohm ±1% 0.1W 0402; MPN: ERJ-2RKF9313X; Mfg: Panasonic; Unit Cost, Qty 1: $0.10; Unit Cost, Qty 500: $0.00494; Value: 931k
footprint 0402_RES (0402 (1005) SMD Resistor)
pins: 1, 2

## 0603C_0.1UF_25V_10%_X7R
designator C?, comment 0.1uF
CAP CER 0.1UF 25V X7R 0603; MPN: CC0603KRX7R8BB104; Mfg: Yageo; Component Description: Capacitor Ceramic 0.1uF +/-10% 25V X7R 0603; Unit cost Qty 1: $0.10; Unit Cost, Qty 500: $0.0064; Value: 0.1uF
footprint 0603_CAP_NP (0603 (1608) SMD Capacitor)
pins: 1, 2

## 0603C_0.1UF_50V_10%_X7R
designator C?, comment 0.1uF
Ceramic Cap 0.10µF ±10% 50V X7R 0603; MPN: GCJ188R71H104KA12D; Mfg: Murata; Unit Cost, Qty 1: $0.25; Unit Cost, Qty 500: $0.069; Value: 0.1uF
footprint 0603_CAP_NP (0603 (1608) SMD Capacitor)
pins: 1, 2

## 0603C_0.01UF_100V_10%_X7R
designator C?, comment 0.01uF
CAP CER 0.01UF 100V 10% X7R 0603; MPN: GCM188R72A103KA37D; Mfg: Murata; Unit Cost, Qty 1: $0.13; Unit Cost, Qty 500: $0.03124; Value: 0.01uF
footprint 0603_CAP_NP (0603 (1608) SMD Capacitor)
pins: 1, 2

## 0603C_0.1UF_100V_10%_X7R
designator C?, comment 0.1uF
Ceramic Cap 0.10µF ±10% 100V X7R 0603; MPN: CC0603KRX7R0BB104; Mfg: Yageo; Unit Cost, Qty 1: $0.19; Unit Cost, Qty 500: $0.045; Value: 0.1uF
footprint 0603_CAP_NP (0603 (1608) SMD Capacitor)
pins: 1, 2

## 0603C_0.022UF_25V_10%_X7R
designator C?, comment 0.022uF
CAP CER 0.022UF 25V X7R 0603; MPN: C0603C223K3RACTU; Mfg: Kemet; Unit Cost, Qty 1: $0.10; Unit Cost, Qty 500: $0.01566; Value: 0.022uF
footprint 0603_CAP_NP (0603 (1608) SMD Capacitor)
pins: 1, 2

## 0603C_0.22UF_25V_10%_X7R
designator C?, comment 0.22uF
CAP CER 0.22UF 25V X7R 0603; MPN: TMK107B7224KA-T; Mfg: Taiyo Yuden; Component Description: Capacitor Ceramic 0.22uF 10% 25V X7R 0603; Unit Cost, Qty 1: $0.10; Unit Cost, Qty 500: $0.02242; Value: 0.22uF
footprint 0603_CAP_NP (0603 (1608) SMD Capacitor)
pins: 1, 2

## 0603C_0.47UF_25V_10%_X7R
designator C?, comment 0.47uF
CAP CER 0.47UF 25V 10% X7R 0603; MPN: TMK107B7474KA-TR; Mfg: Taiyo Yuden; Component Description: Capacitor Ceramic 0.47uF +/-10% 25V X7R 0603; Unit cost Qty 1: $0.12; Unit Cost, Qty 500: $0.02778; Unit Cost, Qty 4,000: $0.01587; Value: 0.47uF
footprint 0603_CAP_NP (0603 (1608) SMD Capacitor)
pins: 1, 2

## 0603C_0.056UF_50V_X7R
designator C?, comment 0.056uF
CAP CER 0.056UF 50V X7R 0603; MPN: CL10B563KB8NNNC; Componenet Description: Capacitor 0.056UF 50V X7R 0603; Mfg: Samsung; Unit Cost, Qty 1: $0.11; Unit Cost, Qty 500: $0.02478; Value: 0.056uF
footprint 0603_CAP_NP (0603 (1608) SMD Capacitor)
pins: 1, 2

## 0603C_1nF_50V_10%_X7R
designator C?, comment 1nF
CAP CER 1NF 50V X7R 0603; MPN: CL10B102KB8WPJC; Mfg: Samsung Electro-Mechanics; Unit Cost, Qty 1: $0.13; Unit Cost, Qty 500: $0.03124; Value: 1nF
footprint 0603_CAP_NP (0603 (1608) SMD Capacitor)
pins: 1, 2

## 0603C_1uF_10V_10%_X7R
designator C?, comment 1uF
1 µF ±10% 10V Ceramic Capacitor X7R 0603 (1608 Metric); MPN: C1608X7R1A105K080AC; Component Description: CAP CER 1UF 10V X7R 0603; Mfg: TDK Corporation; Unit Cost, Qty 1: $0.10; Unit Cost, Qty 500: $0.01978; Value: 1uF
footprint 0603_CAP_NP (0603 (1608) SMD Capacitor)
pins: 1, 2

## 0603C_1uF_25V_10%_X7R
designator C?, comment 1uF
CAP CER 1UF 25V X7R 0603; MPN: TMK107B7105KA-T; Component Description: Ceramic Cap 1µF ±10% 25V X7R 0603; Mfg: Taiyo Yuden; Unit Cost, Qty 1: $0.10; Unit Cost, Qty 500: $0.01978; Value: 1uF
footprint 0603_CAP_NP (0603 (1608) SMD Capacitor)
pins: 1, 2

## 0603C_1uF_50V_10%_X5R
designator C?, comment 1uF
CAP CER 1UF 25V X7R 0603; MPN: GRT188R61H105KE13D; Component Description: CAP CER 1UF 50V X5R 0603; Mfg: Murata Electronics; Unit Cost, Qty 1: $0.10; Unit Cost, Qty 500: $0.01978; Value: 1uF
footprint 0603_CAP_NP (0603 (1608) SMD Capacitor)
pins: 1, 2

## 0603C_2.2uF_16V_10%_X5R
designator C?, comment 2.2uF
Ceramic Cap 2.2µF ±10% 16V X5R 0603; MPN: C0603C225K4PACTU; Mfg: Kemet; Unit Cost, Qty 1: $0.13; Unit Cost, Qty 500: $0.02946; Value: 2.2uF
footprint 0603_CAP_NP (0603 (1608) SMD Capacitor)
pins: 1, 2

## 0603C_2.2uF_25V_10%_X5R
designator C?, comment 2.2uF
Ceramic Cap 2.2µF ±10% 25V X5R 0603; MPN: GRM188R61E225KA12D; Mfg: Murata; Unit Cost, Qty 1: $0.13; Unit Cost, Qty 500: $0.02946; Value: 2.2uF
footprint 0603_CAP_NP (0603 (1608) SMD Capacitor)
pins: 1, 2

## 0603C_3.3uF_16V_10%_X5R
designator C?, comment 3.3uF
CAP CER 3.3UF 16V X5R 0603; MPN: C1608X5R1C335M080AC; Mfg: TDK Corporation; Unit Cost, Qty 1: $0.32; Unit Cost, Qty 500: $0.02946; Value: 3.3uF
footprint 0603_CAP_NP (0603 (1608) SMD Capacitor)
pins: 1, 2

## 0603C_4.7uF_6.3V_10%_X7R
designator C?, comment 4.7uF
Ceramic Cap 4.7µF ±10% 6.3V X7R 0603; MPN: CL10B475KQ8NQNC; Mfg: Samsung; Unit Cost, Qty 1: $0.10; Unit Cost, Qty 500: $0.023; Value: 4.7uF
footprint 0603_CAP_NP (0603 (1608) SMD Capacitor)
pins: 1, 2

## 0603C_4.7UF_10V_10%_X5R
designator C?, comment 4.7uF
CAP CER 4.7UF 10V X5R 0603; MPN: LMK107BJ475KA-T; Mfg: Taiyo Yuden; Unit Cost, Qty 1: $0.19; Unit Cost, Qty 500: $0.043; Value: 4.7uF
footprint 0603_CAP_NP (0603 (1608) SMD Capacitor)
pins: 1, 2

## 0603C_6PF_0.5PF_50V_C0G
designator C?, comment 6pF
CAP CER 6PF 50V C0G/NP0 0603; MPN: GRM1885C1H6R0DA01D; Component Description: Capacitor 6pF +/-0.5pF5 0V C0G 0603; Mfg: Murata; Unit Cost, Qty 1: $0.10; Unit Cost, Qty 500: $0.0186; Value: 6pF
footprint 0603_CAP_NP (0603 (1608) SMD Capacitor)
pins: 1, 2

## 0603C_10UF_6.3V_20%_X5R
designator C?, comment 10uF
CAP CER 10UF 6.3V X5R 0603; MPN: CC0603MPX5R5BB106; Mfg: Yageo; Unit Cost, Qty 1: $0.18; Unit Cost, Qty 500: 0.04188; Component Description: CAP CER 10UF 6.3V X5R 0603; Value: 10uF
footprint 0603_CAP_NP (0603 (1608) SMD Capacitor)
pins: 1, 2

## 0603C_10UF_10V_20%_X5R
designator C?, comment 10uF
10 µF ±20% 10V Ceramic Capacitor X5R 0603 (1608 Metric); MPN: LMK107BBJ106MALT; Component Description: CAP CER 10UF 10V X5R 0603; Mfg: Taiyo Yuden; Unit Cost, Qty 1: $0.18; Unit Cost, Qty 500: 0.04188; Value: 10uF
footprint 0603_CAP_NP (0603 (1608) SMD Capacitor)
pins: 1, 2

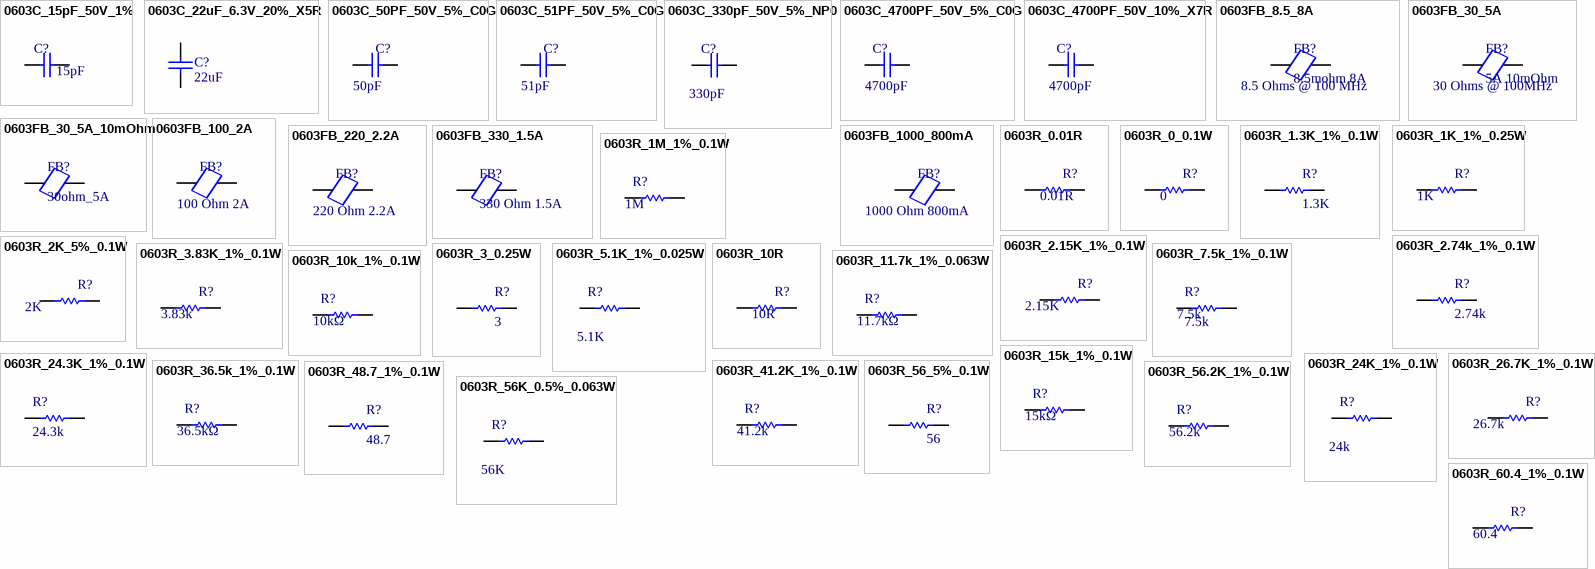
[diagram p8: symbols 0603C_15pF_50V_1% to 0603R_60.4_1%_0.1W]

## 0603C_15pF_50V_1%
designator C?, comment 15pF
CAP CER 15PF 50V NPO 0603; MPN: CC0603FRNPO9BN150; Mfg: Yageo; Unit Cost, Qty 1: $0.13; Unit Cost, Qty 500: $0.03124; Value: 15pF
footprint 0603_CAP_NP (0603 (1608) SMD Capacitor)
pins: 1, 2

## 0603C_22uF_6.3V_20%_X5R
designator C?, comment 22uF
22µF ±20% 6.3V Ceramic Capacitor X5R 0603 (1608 Metric); MPN: GRM188R60J226MEA0J; Case-Metric: 1608; Case-EIA: 0603; Mfg: Murata Electronics; Max Thickness: 1 mm; Rated Voltage: 6.3V; Technology: SMT; Tolerance: ±20%; Value: 22uF
footprint 0603_CAP_NP (0603 (1608) SMD Capacitor)
pins: 1, 2
1 alternate drawing of the same symbol

## 0603C_50PF_50V_5%_C0G
designator C?, comment 50pF
0603 50 pF 50 V ±5% Tolerance C0G/NP0 Surface Mount Multilayer Ceramic Capacitor; MPN: 06035A500JAT2A; Mfg: AVX; Unit Cost, Qty 1: $0.10; Unit Cost, Qty 500: $0.01136; Component Description: 0603 50 pF 50 V ±5% Tolerance C0G/NP0 Surface Mount Multilayer Ceramic Capacitor; Value: 50pF
footprint 0603_CAP_NP (0603 (1608) SMD Capacitor)
pins: 1, 2

## 0603C_51PF_50V_5%_C0G
designator C?, comment 51pF
CAP CER 51PF 50V C0G 0603; MPN: CL10C510JB8NNNC; Component Description: Capacitor Ceramic 51PF 50V 5% C0G 0603; Mfg: Samsung; Unit Cost, Qty 1: $0.10; Unit Cost, Qty 500: $0.01136; Value: 51pF
footprint 0603_CAP_NP (0603 (1608) SMD Capacitor)
pins: 1, 2

## 0603C_330pF_50V_5%_NP0
designator C?, comment 330pF
CAP CER 330PF 50V NP0 0603; MPN: GRM1885C1H331JA01J; Mfg: Murata; Unit Cost, Qty 1: $0.13; Unit Cost, Qty 500: $0.03124; Value: 330pF
footprint 0603_CAP_NP (0603 (1608) SMD Capacitor)
pins: 1, 2

## 0603C_4700PF_50V_5%_C0G
designator C?, comment 4700pF
CAP CER 4700PF 50V 5% C0G 0603; MPN: CGA3E2C0G1H472J080AA; Component Description: Capacitor Ceramic 4700PF 50V C0G 0603; Mfg: TDK; Unit Cost, Qty 1: $0.28; Unit Cost, Qty 500: $0.0759; Value: 4700pF
footprint 0603_CAP_NP (0603 (1608) SMD Capacitor)
pins: 1, 2

## 0603C_4700PF_50V_10%_X7R
designator C?, comment 4700pF
CAP CER 4700PF 50V X7R 0603; MPN: GRM188R71H472KA01D; Component Description: Capacitor Ceramic 4700PF 50V X7R 0603; Mfg: Murata; Unit Cost, Qty 1: $0.10; Unit Cost, Qty 500: $0.00874; Value: 4700pF
footprint 0603_CAP_NP (0603 (1608) SMD Capacitor)
pins: 1, 2

## 0603FB_8.5_8A
designator FB?, comment 8.5mohm 8A  value 8.5 Ohms @ 100 MHz
8.5 Ohms @ 100 MHz 1 Power Line Ferrite Bead 0603 (1608 Metric) 8A 4mOhm; MPN: BLE18PS080SN1D; Mfg: Murata Electronics; Unit Cost, Qty 1: $0.10; Unit Cost, Qty 500: $0.03
footprint 0603_FB (0603 (1608) Ferrite Bead)
pins: 1, 2

## 0603FB_30_5A
designator FB?, comment 5A 10mOhm  value 30 Ohms @ 100MHz
30 Ohms @ 100MHz 1 Power Line Ferrite Bead 0603 (1608 Metric) 5A 10mOhm; MPN: MPZ1608S300ATDH5; Mfg: TDK; Unit Cost, Qty 1: $0.10; Unit Cost, Qty 500: $0.03
footprint 0603_FB (0603 (1608) Ferrite Bead)
pins: 1, 2

## 0603FB_30_5A_10mOhm
designator FB?, comment 30ohm_5A
30 Ohms @ 100MHz 1 Power Line Ferrite Bead 0603 (1608 Metric) 5A 10mOhm; MPN: MPZ1608S300ATDH5; Mfg: Murata; Unit Cost, Qty 1: $0.14; Unit Cost, Qty 500: $0.04654; Component Description: 30 Ohms @ 100MHz 1 Power Line Ferrite Bead 0603 (1608 Metric) 5A 10mOhm; Value: 30ohm_5A
footprint 0603_FB (0603 (1608) Ferrite Bead)
pins: 1, 2

## 0603FB_100_2A
designator FB?, comment value 100 Ohm 2A  (hidden comment: 100ohm)
FERRITE BEAD 100 OHM 2A 45mohm 0603; MPN: BLM18EG101TN1D; Mfg: Murata; Unit Cost, Qty 1: $0.23; Unit Cost, Qty 500: $0.09; Component Description: FERRITE BEAD 100 OHM 2A 45mohm 0603
footprint 0603_FB (0603 (1608) Ferrite Bead)
pins: 1, 2

## 0603FB_220_2.2A
designator FB?, comment value 220 Ohm 2.2A  (hidden comment: 220ohm)
FERRITE BEAD 220 OHM 0603; MPN: BLM18KG221SN1D; Component Description: FERRITE BEAD 220 OHM 2.2A 50mohm 0603; Mfg: Murata; Unit Cost, Qty 1: $0.10; Unit Cost, Qty 500: $0.03
footprint 0603_FB (0603 (1608) Ferrite Bead)
pins: 1, 2

## 0603FB_330_1.5A
designator FB?, comment 330 Ohm 1.5A
FERRITE BEAD 330 OHM 1.5A 70mohm 0603; MPN: BLM18SG331TN1D; Mfg: Murata; Unit Cost, Qty 1: $0.14; Unit Cost, Qty 500: $0.04654; Component Description: FERRITE BEAD 330 OHM 1.5A 70mohm 0603; Value: 330 Ohm 1.5A
footprint 0603_FB (0603 (1608) Ferrite Bead)
pins: 1, 2

## 0603FB_1000_800mA
designator FB?, comment value 1000 Ohm 800mA  (hidden comment: 1000 ohm)
FERRITE BEAD 1000 OHM 800mA 300mohm 0603; MPN: MPZ1608S102ATA00; Mfg: TDK; Unit Cost, Qty 1: $0.10; Unit Cost, Qty 500: $0.03
footprint 0603_FB (0603 (1608) Ferrite Bead)
pins: 1, 2

## 0603R_0.01R
designator R?, comment 0.01R
RES 0.01 OHM 1% 1/4W 0603; MPN: PMR03EZPFU10L0; Mfg: Rohm Semiconductor; Unit Cost, Qty 1: $0.10; Unit Cost, Qty 500: $0.002252; Value: 0.01R
footprint 0603_RES (0603 (1608) SMD Resistor)
pins: 1, 2

## 0603R_0_0.1W
designator R?, comment 0
Resistor 0 ohm 0.1W 0603; MPN: RC0603JR-070RL; Mfg: Yageo; Unit Cost, Qty 1: $0.10; Unit Cost, Qty 500: $0.002252; Value: 0
footprint 0603_RES (0603 (1608) SMD Resistor)
pins: 1, 2

## 0603R_1.3K_1%_0.1W
designator R?, comment 1.3K
RES SMD 1.3K OHM 1% 1/10W 0603; MPN: RMCF0603FT1K30; Mfg: Stackpole Electronics Inc; Unit Cost, Qty 1: $0.10; Unit Cost, Qty 500: $0.0065; Value: 1.3K
footprint 0603_RES (0603 (1608) SMD Resistor)
pins: 1, 2

## 0603R_1K_1%_0.25W
designator R?, comment 1K
RES SMD 1K OHM 1% 1/4W 0603; MPN: ESR03EZPF1001; Mfg: Rohm Semiconductor; Unit Cost, Qty 1: $0.10; Unit Cost, Qty 500: $0.00316; Component Description: RES SMD 1K OHM 1% 1/4W 0603; Value: 1K
footprint 0603_RES (0603 (1608) SMD Resistor)
pins: 1, 2

## 0603R_1M_1%_0.1W
designator R?, comment 1M
RES SMD 1M OHM 1% 1/10W 0603; MPN: RC0603FR-071ML; Component Description: Resistor 1M ohm 1% 0.1W 0603; Mfg: Yageo; Unit Cost, Qty 1: $0.10; Unit Cost, Qty 500: $0.0316; Value: 1M
footprint 0603_RES (0603 (1608) SMD Resistor)
pins: 1, 2

## 0603R_2.15K_1%_0.1W
designator R?, comment 2.15K
RES SMD 2.15K OHM 1% 1/10W 0603; MPN: RC0603FR-072K15L; Mfg: Yageo; Unit Cost, Qty 1: $0.10; Unit Cost, Qty 500: $0.00316; Value: 2.15K
footprint 0603_RES (0603 (1608) SMD Resistor)
pins: 1, 2

## 0603R_2.74k_1%_0.1W
designator R?, comment 2.74k
RES SMD 2.74k OHM 1% 1/10W 0603; MPN: CRCW06032K74FKEA; Mfg: Vishay Dale; Unit Cost, Qty 1: $0.10; Unit Cost, Qty 500: $0.0139; Value: 2.74k
footprint 0603_RES (0603 (1608) SMD Resistor)
pins: 1, 2

## 0603R_2K_5%_0.1W
designator R?, comment 2K
RES 2K OHM 5% 1/10W 0603; MPN: RC0603JR-072KL; Mfg: Yageo; Unit Cost, Qty 1: $0.10; Unit Cost, Qty 500: $0.00316; Value: 2K
footprint 0603_RES (0603 (1608) SMD Resistor)
pins: 1, 2

## 0603R_3.83K_1%_0.1W
designator R?, comment 3.83k
RES SMD 3.83K OHM 1% 1/10W 0603; MPN: RC0603FR-073K83L; Component Description: Resistor 3.83k ohm 1% 0.1W 0603; Mfg: Yageo; Unit Cost, Qty 1: $0.10; Unit Cost, Qty 500: $0.00316; Value: 3.83k
footprint 0603_RES (0603 (1608) SMD Resistor)
pins: 1, 2

## 0603R_3_0.25W
designator R?, comment 3
Resistor 3 ohm 0.25W 0603; MPN: CRCW06033R00FKEAHP; Mfg: Vishay/Dale; Unit Cost, Qty 1: $0.22; Unit Cost, Qty 500: $0.0733; Value: 3
footprint 0603_RES (0603 (1608) SMD Resistor)
pins: 1, 2

## 0603R_5.1K_1%_0.025W
designator R?, comment 5.1K
RES 5.1K OHM 1% 1/10W 0603; MPN: AC0603FR-135K1L; Mfg: Yageo; Unit Cost, Qty 1: $0.10; Unit Cost, Qty 500: $0.00316; Component Description: RES 5.1K OHM 1% 1/10W 0603; Value: 5.1K
footprint 0603_RES (0603 (1608) SMD Resistor)
pins: 1, 2

## 0603R_7.5k_1%_0.1W
designator R?, comment 7.5k
RES SMD 7.5K OHM 1% 1/10W 0603; MPN: RC0603FR-077K5L; Component Description: Resistor 7.5k ohm 1% 0.1W 0603; Mfg: Yageo; Unit Cost, Qty 1: $0.10; Unit Cost, Qty 500: $0.00316; Value: 7.5k
footprint 0603_RES (0603 (1608) SMD Resistor)
pins: 1, 2

## 0603R_10k_1%_0.1W
designator R?, comment value 10kΩ  (hidden comment: 10k)
RES SMD 10K OHM 1% 1/10W 0603; MPN: RC0603FR-0710KL; Component Description: Resistor 10k Ohm ±1% 0.1W 0603; Unit Cost, Qty 1: $0.10; Unit Cost, Qty 500: $0.00316; Mfg: Yageo
footprint 0603_RES (0603 (1608) SMD Resistor)
pins: 1, 2

## 0603R_10R
designator R?, comment 10R
RES SMD 10 OHM 1% 1/10W 0603; MPN: RE0603FRE0710RL; Mfg: Yageo; Unit Cost, Qty 1: $0.10; Unit Cost, Qty 500: $0.002252; Value: 10R
footprint 0603_RES (0603 (1608) SMD Resistor)
pins: 1, 2

## 0603R_11.7k_1%_0.063W
designator R?, comment value 11.7kΩ  (hidden comment: 11.7k)
Thin Film Resistors - SMD 11.7kOhm,0603,1%,25p pm,63mW,50V; MPN: RN731JTTD1172F25; Unit Cost, Qty 1: $0.10; Unit Cost, Qty 500: $0.00316; Mfg: KOA Speer; Component Description: Thin Film Resistors - SMD 11.7kOhm,0603,1%,25p pm,63mW,50V
footprint 0603_RES (0603 (1608) SMD Resistor)
pins: 1, 2

## 0603R_15k_1%_0.1W
designator R?, comment value 15kΩ  (hidden comment: 15k)
RES SMD 15K OHM 0.1% 1/10W 0603; MPN: RT0603BRB0715KL; Unit Cost, Qty 1: $0.10; Unit Cost, Qty 500: $0.00316; Mfg: Yageo; Component Description: RES SMD 15K OHM 0.1% 1/10W 0603
footprint 0603_RES (0603 (1608) SMD Resistor)
pins: 1, 2

## 0603R_24.3K_1%_0.1W
designator R?, comment 24.3k
RES SMD 24.3K OHM 1% 1/10W 0603; MPN: RC0603FR-0724K3L; Mfg: Yageo; Component Description: Resistor 24.3k ohm 1% 0.1W 0603; Unit Cost, Qty 1: $0.10; Unit Cost, Qty 500: $0.0094; Value: 24.3k
footprint 0603_RES (0603 (1608) SMD Resistor)
pins: 1, 2

## 0603R_24K_1%_0.1W
designator R?, comment 24k
RES SMD 24K OHM 1% 1/10W 0603; MPN: RC0603FR-0724KL; Mfg: Yageo; Component Description: Resistor 24k ohm 1% 0.1W 0603; Unit Cost, Qty 1: $0.10; Unit Cost, Qty 500: $0.00316; Value: 24k
footprint 0603_RES (0603 (1608) SMD Resistor)
pins: 1, 2

## 0603R_26.7K_1%_0.1W
designator R?, comment 26.7k
RES SMD 26.7K OHM 1% 1/10W 0603; MPN: RC0603FR-0726K7L; Component Description: Resistor 26.7k ohm 1% 0.1W 0603; Mfg: Yageo; Unit Cost, Qty 1: $0.10; Unit Cost, Qty 500: $0.00316; Value: 26.7k
footprint 0603_RES (0603 (1608) SMD Resistor)
pins: 1, 2

## 0603R_36.5k_1%_0.1W
designator R?, comment value 36.5kΩ  (hidden comment: 36.5k)
Thick Film Resistors 1/10W 36.5K OHM 1%; MPN: RK73H1JTTDD3652F; Unit Cost, Qty 1: $0.10; Unit Cost, Qty 500: $0.00316; Mfg: KOA Speer; Component Description: Thick Film Resistors 1/10W 36.5K OHM 1%
footprint 0603_RES (0603 (1608) SMD Resistor)
pins: 1, 2

## 0603R_41.2K_1%_0.1W
designator R?, comment 41.2k
RES SMD 41.2K OHM 1% 1/10W 0603; MPN: RC0603FR-0741K2L; Mfg: Yageo; Component Description: Resistor 41.2k ohm 1% 0.1W 0603; Unit Cost, Qty 1: $0.10; Unit Cost, Qty 500: $0.00316; Value: 41.2k
footprint 0603_RES (0603 (1608) SMD Resistor)
pins: 1, 2

## 0603R_48.7_1%_0.1W
designator R?, comment 48.7
RES SMD 48.7 OHM 1% 1/10W 0603; MPN: RC0603FR-0748R7L; Component Description: Resistor 48.7 ohm 1% 0.1W 0603; Mfg: Yageo; Unit Cost, Qty 1: $0.10; Unit Cost, Qty 500: $0.0094; Value: 48.7
footprint 0603_RES (0603 (1608) SMD Resistor)
pins: 1, 2

## 0603R_56.2K_1%_0.1W
designator R?, comment 56.2k
RES SMD 56.2K OHM 1% 1/10W 0603; MPN: RC0603FR-0756K2L; Mfg: Yageo; Component Description: Resistor 56.2k Ohm ±1% 0.1W 0603; Unit Cost, Qty 1: $0.10; Unit Cost, Qty 500: $0.00316; Value: 56.2k
footprint 0603_RES (0603 (1608) SMD Resistor)
pins: 1, 2

## 0603R_56_5%_0.1W
designator R?, comment 56
RES 56 OHM 5% 1/10W 0603; MPN: RC0603JR-0756RL; Mfg: Yageo; Unit Cost, Qty 1: $0.10; Unit Cost, Qty 500: $0.0094; Component Description: RES 56 OHM 5% 1/10W 0603; Value: 56
footprint 0603_RES (0603 (1608) SMD Resistor)
pins: 1, 2

## 0603R_56K_0.5%_0.063W
designator R?, comment 56K
RES SMD 56K OHM 0.5% 1/16W 0603; MPN: RR0816P-563-D; Component Description: RES SMD 56K OHM 0.5% 1/16W 0603120 kOhms ±1% 0.1W, 1/10W Chip Resistor 0603 (1608 Metric) Moisture Resistant Thick Film; Mfg: Susumu; Unit Cost, Qty 1: $0.10; Unit Cost, Qty 500: $0.00316; Value: 56K
footprint 0603_RES (0603 (1608) SMD Resistor)
pins: 1, 2

## 0603R_60.4_1%_0.1W
designator R?, comment 60.4
RES SMD 60.4 OHM 1% 1/10W 0603; MPN: RC0603FR-0760R4L; Component Description: Resistor 60.4 ohm 1% 0.1W 0603; Mfg: Yageo; Unit Cost, Qty 1: $0.10; Unit Cost, Qty 500: $0.0057; Value: 60.4
footprint 0603_RES (0603 (1608) SMD Resistor)
pins: 1, 2

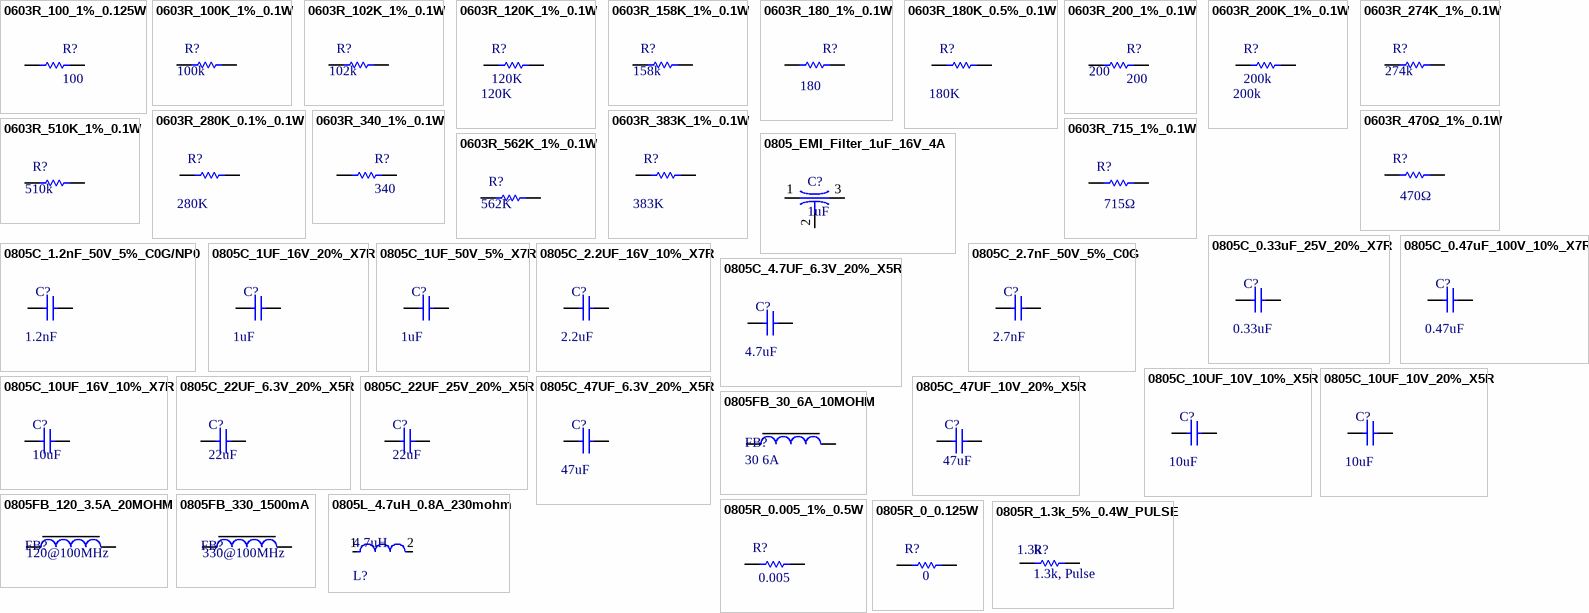
[diagram p9: symbols 0603R_100_1%_0.125W to 0805R_1.3k_5%_0.4W_PULSE]